# EAGLE library part 74*393 (library ICs_74HC_Series)
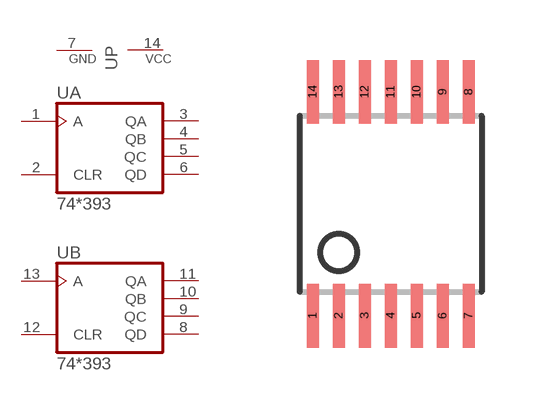
[diagram p4: symbol with the pads of 14-TSSOP; footprint 14-TSSOP]

Designator prefix -; gates A=74393 B=74393 P=POWER

## 74HC393AT-PWRQ1  [14-TSSOP]
1  A:A  in
2  A:CLR  in
3  A:QA  out
4  A:QB  out
5  A:QC  out
6  A:QD  out
7  P:GND  pwr
8  B:QD  out
9  B:QC  out
10  B:QB  out
11  B:QA  out
12  B:CLR  in
13  B:A  in
14  P:VCC  pwr

## Footprint 14-TSSOP (pad centres in mm)
smd 0.3 x 1.6: 1 -0.004,-0.006; 2 0.646,-0.006; 3 1.296,-0.006; 4 1.946,-0.006; 5 2.596,-0.006; 6 3.246,-0.006; 7 3.896,-0.006; 8 3.896,5.594; 9 3.246,5.594; 10 2.596,5.594; 11 1.946,5.594; 12 1.296,5.594; 13 0.646,5.594; 14 -0.004,5.594